# Altium schematic symbol library BTS716G High Side Driver.SchLib: 1 symbol
Pins are listed as number, name and electrical type; pins without a type are passive.

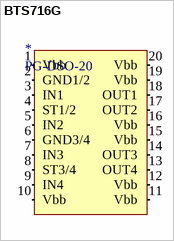
[diagram p0: symbol BTS716G]

## BTS716G
designator *, comment PG-DSO-20
Smart High Side Power Switch
pins: 1 Vbb (in), 2 GND1/2 (in), 3 IN1 (in), 4 ST1/2 (in), 5 IN2 (in), 6 GND3/4 (in), 7 IN3 (in), 8 ST3/4 (in), 9 IN4 (in), 10 Vbb (in), 11 Vbb (in), 12 Vbb (in), 13 OUT4 (out), 14 OUT3 (out), 15 Vbb (in), 16 Vbb (in), 17 OUT2 (out), 18 OUT1 (out), 19 Vbb (in), 20 Vbb (in)